# Altium schematic symbol library RGA101M1EBK-0611G.SchLib: 1 symbol
Pins are listed as number, name and electrical type; pins without a type are passive.

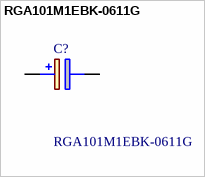
[diagram p0: symbol RGA101M1EBK-0611G]

## RGA101M1EBK-0611G
designator C?
Aluminum Electrolytic Capacitors - Leaded 25V 100uF 105C 6.3x11mm; Manufacturer_Name: Lelon; Geometry.Height: 12.5mm; Mouser Part Number: 140-RGA101M1EBK0611G; Mouser Price/Stock: https://www.mouser.co.uk/ProductDetail/Lelon/RGA101M1EBK-0611G?qs=pNDdEcSXiOD7yLUz3NUJrA%3D%3D; Manufacturer_Part_Number: RGA101M1EBK-0611G; Datasheet Link: https://componentsearchengine.com/Datasheets/1/RGA101M1EBK-0611G.pdf
footprint CAPPRD225W50D680H1250
pins: 1 +, 2 -